# Altium footprint library Components.PcbLib: 9 footprints
Each footprint in its own frame and in the unit in brackets; x right, y up, seen from the top. Pads: shape width x height; smd on the part's side, far side on the other; paste and mask are expansions set on the pad; w line width, h text height; cw(c..) or ccw(c..) is an arc to the next point about the centre after c.
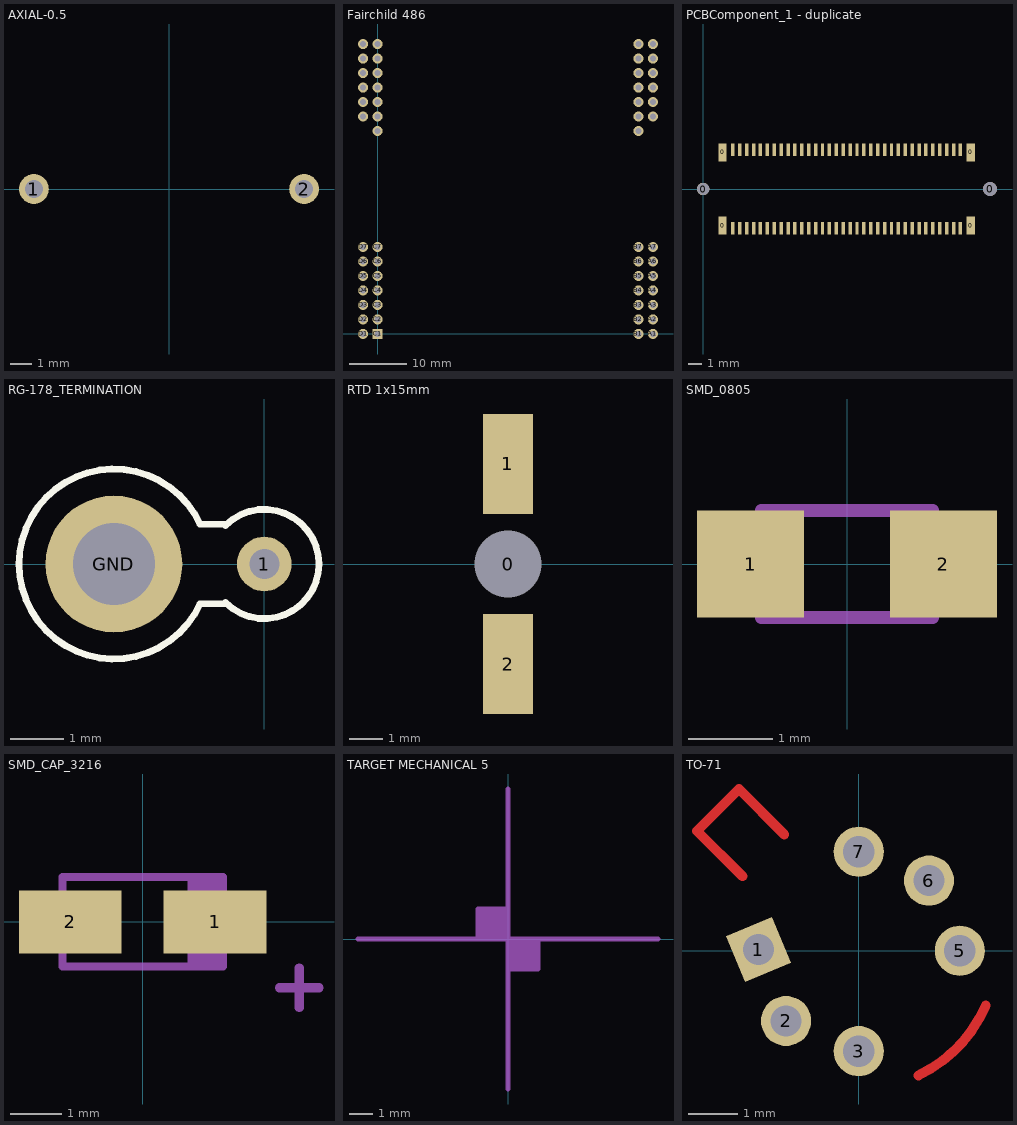
[diagram p0: the footprints below, top view; thin cyan lines are the x and y axes]

## AXIAL-0.5 [mm] "Axial Device, Thru-Hole; 2 Leads; 0.5 in Pin Spacing"
height 2.54
pads (2):
  round 1.4 hole 0.85: 1(-6.35,0) 2(6.35,0)

## Fairchild 486 [mil] "486 CCD"
height 750
pads (54):
  round 70 hole 40: A1(1900,0) A2(1900,100) A3(1900,200) A4(1900,300) A5(1900,400) A6(1900,500) A7(1900,600) A16(1900,1500) A17(1900,1600) A18(1900,1700) A19(1900,1800) A20(1900,1900) A21(1900,2000) B1(1800,0) B2(1800,100) B3(1800,200) B4(1800,300) B5(1800,400) B6(1800,500) B7(1800,600) B15(1800,1400) B16(1800,1500) B17(1800,1600) B18(1800,1700) B19(1800,1800) B20(1800,1900) B21(1800,2000) C2(0,100) C3(0,200) C4(0,300) C5(0,400) C6(0,500) C7(0,600) C15(0,1400) C16(0,1500) C17(0,1600) C18(0,1700) C19(0,1800) C20(0,1900) C21(0,2000) D1(-100,0) D2(-100,100) D3(-100,200) D4(-100,300) D5(-100,400) D6(-100,500) D7(-100,600) D16(-100,1500) D17(-100,1600) D18(-100,1700) D19(-100,1800) D20(-100,1900) D21(-100,2000)
  rect 70x70 hole 40: C1(0,0)

## PCBComponent_1 - duplicate [mm]
pads (75):
  round 0.9 hole 0.9 unplated: 0(0,0)
  rect 0.6x1.3 smd: 0(1.4,-2.65) 0(1.4,2.65) 0(19.4,-2.65) 0(19.4,2.65)
  round 1 hole 1 unplated: 0(20.8,0)
  rect 0.25x0.9 smd: 1(2.15,2.85) 1(2.15,2.85) 2(2.15,-2.85) 3(2.65,2.85) 4(2.65,-2.85) 5(3.15,2.85) 6(3.15,-2.85) 7(3.65,2.85) 8(3.65,-2.85) 9(4.15,2.85) 10(4.15,-2.85) 11(4.65,2.85) 12(4.65,-2.85) 13(5.15,2.85) 14(5.15,-2.85) 15(5.65,2.85) 16(5.65,-2.85) 17(6.15,2.85) 18(6.15,-2.85) 19(6.65,2.85) 20(6.65,-2.85) 21(7.15,2.85) 22(7.15,-2.85) 23(7.65,2.85) 24(7.65,-2.85) 25(8.15,2.85) 26(8.15,-2.85) 27(8.65,2.85) 28(8.65,-2.85) 29(9.15,2.85) 30(9.15,-2.85) 31(9.65,2.85) 32(9.65,-2.85) 33(10.15,2.85) 34(10.15,-2.85) 35(10.65,2.85) 36(10.65,-2.85) 37(11.15,2.85) 38(11.15,-2.85) 39(11.65,2.85) 40(11.65,-2.85) 41(12.15,2.85) 42(12.15,-2.85) 43(12.65,2.85) 44(12.65,-2.85) 45(13.15,2.85) 46(13.15,-2.85) 47(13.65,2.85) 48(13.65,-2.85) 49(14.15,2.85) 50(14.15,-2.85) 51(14.65,2.85) 52(14.65,-2.85) 53(15.15,2.85) 54(15.15,-2.85) 55(15.65,2.85) 56(15.65,-2.85) 57(16.15,2.85) 58(16.15,-2.85) 59(16.65,2.85) 60(16.65,-2.85) 61(17.15,2.85) 62(17.15,-2.85) 63(17.65,2.85) 64(17.65,-2.85) 65(18.15,2.85) 66(18.15,-2.85) 67(18.65,2.85) 68(18.65,-2.85)
Top Layer:
  text "1" at -2.956,2.772 h0.76
  text "2" at 0.803,-5.356 h0.76

## RG-178_TERMINATION [mil] "RG-178 Solder Termination in a PCB"
pads (2):
  round 40 hole 22: 1(0,0)
  round 100 hole 60: GND(-110,0)
Top Overlay:
  lines w5: -46.93,-29.11 cw(c-110,0) -46.93,29.11 -29.11,29.11 -28.28,28.28 cw(c0,0) -28.28,-28.28 -29.11,-29.11 -46.93,-29.11

## RTD 1x15mm [mm] "RTD"
height 19.05
pads (3):
  round 1.778 hole 2 unplated: 0(-9.5,0)
  rect 1.5x3 smd: 1(-9.5,3) 2(-9.5,-3)

## SMD_0805 [mil]
height 497.64
pads (2):
  rect 50x50 smd: 1(-45,0) 2(45,0)
Mechanical 3:
  lines w2: -24,-25 -24,25 ; 24,-25 24,25
  lines w6: -40,-25 40,-25 40,25 -40,25 -40,-25

## SMD_CAP_3216 [mil]
height 750
pads (2):
  rect 78x48 smd: 1(55,0) 2(-55,0)
Mechanical 3:
  rectangle: 35.89,-34 60.89,34
  lines w4: -61,-21 -66,-21 -66,21 -61,21 ; 36,-34 36,34 ; 61,-21 66,-21 66,21 61,21
  lines w6: -61,-34 -61,34 61,34 61,-34 -61,-34
  lines w7: 104,-50 134,-50 ; 119,-65 119,-35

## TARGET MECHANICAL 5 [mm]
height 12.64
Mechanical 5:
  lines w0.203: -6.35,0 6.35,0 ; -1.27,0 -1.27,1.27 0,1.27 ; -1.016,0.889 -1.016,0.254 -0.254,0.254 -0.254,1.016 -1.016,1.016 ; -0.889,0.762 -0.889,0.381 -0.381,0.381 -0.381,0.889 -0.889,0.889 ; -0.762,0.635 -0.508,0.635 ; 0,-6.35 0,6.35 ; 0,-1.27 1.27,-1.27 1.27,0 ; 0.254,-0.381 0.254,-1.016 1.016,-1.016 1.016,-0.254 0.254,-0.254 ; 0.381,-0.508 0.381,-0.889 0.889,-0.889 0.889,-0.381 0.381,-0.381 ; 0.508,-0.635 0.762,-0.635 ; -1.143,0.127 -0.127,0.127 -0.127,1.143 -1.143,1.143 -1.143,0.127 ; -0.762,0.508 -0.508,0.508 -0.508,0.762 -0.762,0.762 -0.762,0.508 ; 0.127,-1.143 1.143,-1.143 1.143,-0.127 0.127,-0.127 0.127,-1.143 ; 0.508,-0.762 0.762,-0.762 0.762,-0.508 0.508,-0.508 0.508,-0.762

## TO-71 [mil] "Can; 7 Leads (1 Absent); Pin Circle Dia. 2.54 mm; Lead Dia. 0.48 mm (max)"
height 210.24
pads (6):
  rect 40x40 hole 25 rot 22.5: 1(-80,1)
  round 40 hole 25: 2(-58,-56) 3(0,-80) 5(80.62,0) 6(56,56) 7(0,79)
Top Layer:
  lines w7.87: -92.84,59.44 -129.03,95.62 -95.62,129.03 -59.44,92.84 ; 47.73,-99.37 ccw(c0,0) 101.23,-43.65
  text "1" at -137,-23 h40